# EAGLE library part KEYPAD (library Custom)
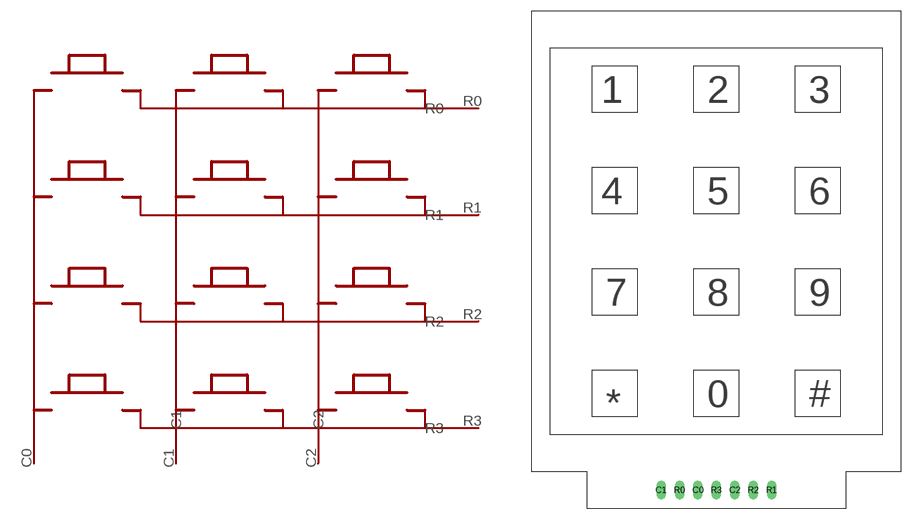
[diagram p3: symbol with the pads of KEYPAD; footprint KEYPAD]

Designator prefix KP

## KEYPAD  [KEYPAD]
C0  C0
C1  C1
C2  C2
R0  R0
R1  R1
R2  R2
R3  R3

## Footprint KEYPAD (pad centres in mm)
drill 0.8 long: C0 -2.54,0; C1 -7.62,0; C2 2.54,0; R0 -5.08,0; R1 7.62,0; R2 5.08,0; R3 0,0